# Altium integrated library Actel IGLOO.IntLib: 429 symbols (part 24 of 43)

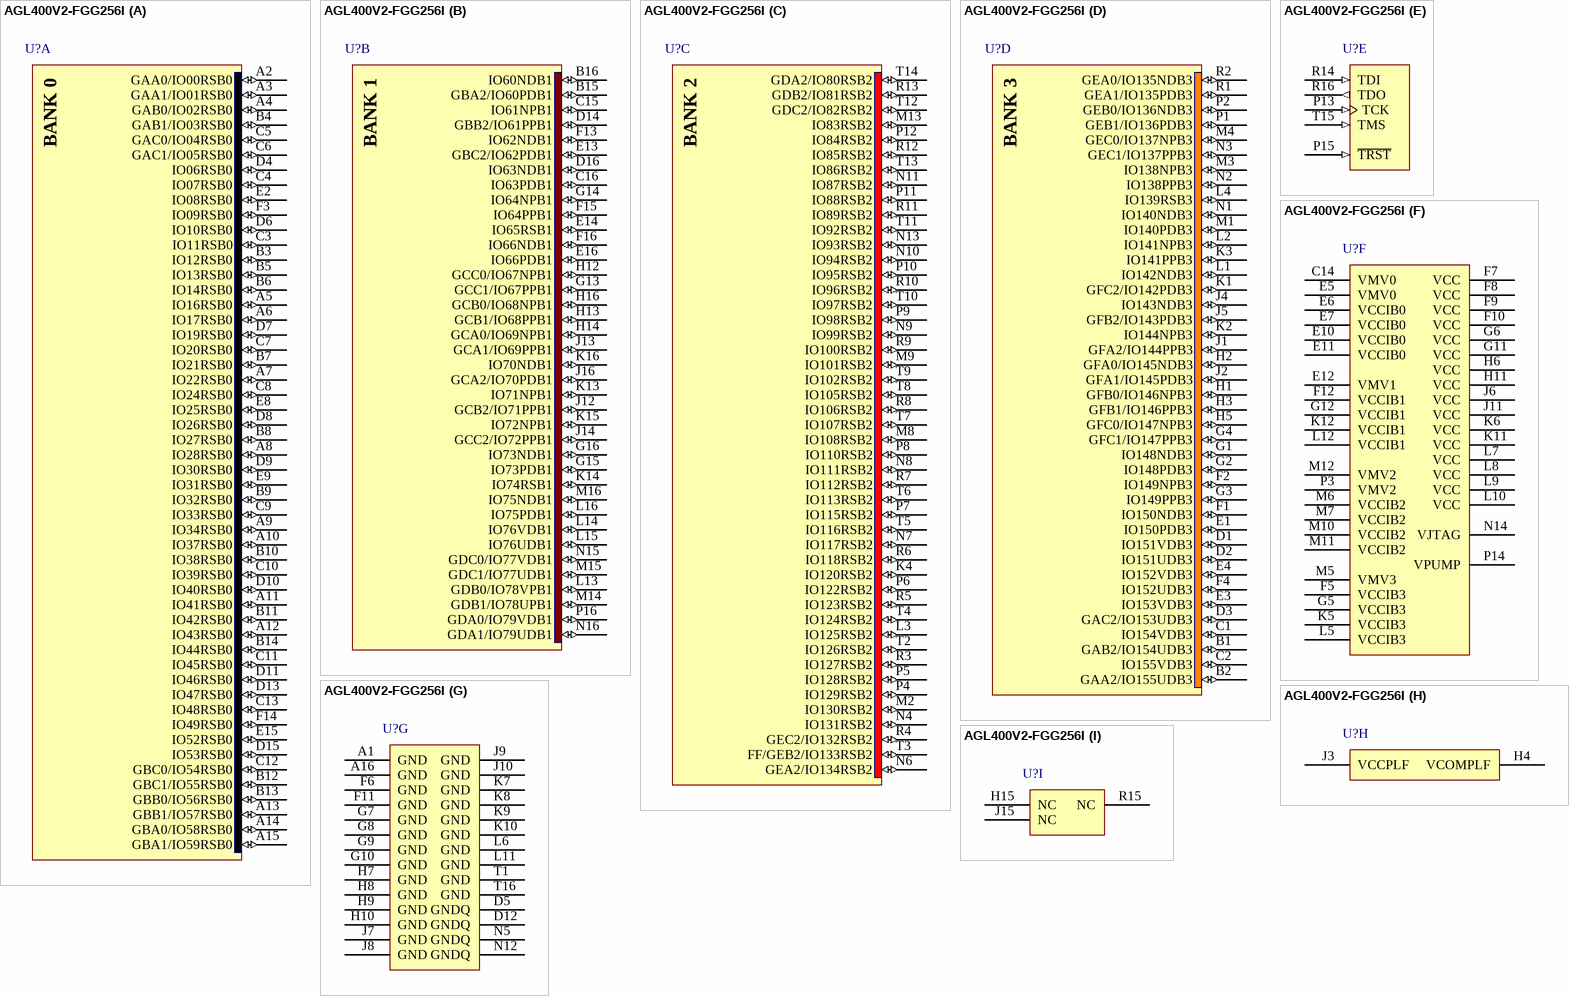
[diagram p73: symbol AGL400V2-FGG256I]